# Altium footprint library PcbLib1-RFM90B.PcbLib: 1 footprints
Each footprint in its own frame and in the unit in brackets; x right, y up, seen from the top. Pads: shape width x height; smd on the part's side, far side on the other; paste and mask are expansions set on the pad; w line width, h text height; cw(c..) or ccw(c..) is an arc to the next point about the centre after c.
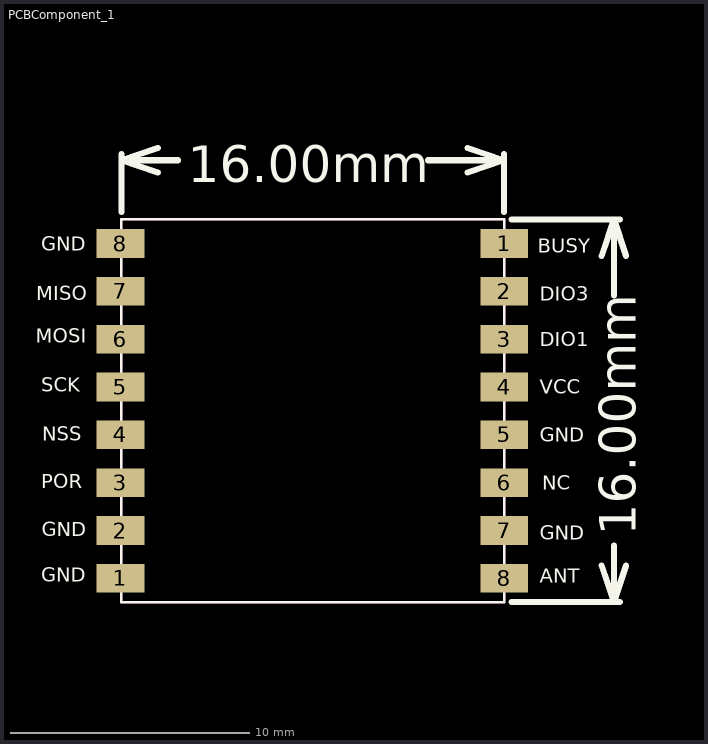
[diagram p0: the footprint, top view; thin cyan lines are the x and y axes]

## PCBComponent_1 [mm]
pads (16):
  rect 2x1.2 smd: 1(50.276,30.141) 1(66.326,44.141) 2(50.276,32.141) 2(66.326,42.141) 3(50.276,34.141) 3(66.326,40.141) 4(50.276,36.141) 4(66.326,38.141) 5(50.276,38.141) 5(66.326,36.141) 6(50.276,40.141) 6(66.326,34.141) 7(50.276,42.141) 7(66.326,32.141) 8(50.276,44.141) 8(66.326,30.141)
Top Overlay:
  lines w0.254: 50.316,45.455 50.316,47.875 ; 51.84,47.113 50.316,47.621 ; 51.84,48.129 50.316,47.621 ; 52.679,47.621 50.316,47.621 ; 63.141,47.621 66.316,47.621 ; 64.792,47.113 66.316,47.621 ; 64.792,48.129 66.316,47.621 ; 66.316,45.455 66.316,47.875 ; 66.62,29.151 71.161,29.151 ; 66.62,45.151 71.161,45.151 ; 70.399,30.675 70.907,29.151 ; 70.399,43.627 70.907,45.151 ; 70.907,31.513 70.907,29.151 ; 70.907,41.975 70.907,45.151 ; 71.415,30.675 70.907,29.151 ; 71.415,43.627 70.907,45.151
  text "16.00mm" at 53.085,46.707 h1.52
  text "16.00mm" at 71.821,31.92 h1.52
  text "BUSY" at 67.716,43.751 h0.6
  text "DIO3" at 67.816,41.751 h0.6
  text "DIO1" at 67.816,39.851 h0.6
  text "VCC" at 67.816,37.851 h0.6
  text "GND" at 67.816,31.751 h0.6
  text "NC" at 67.916,33.851 h0.6
  text "GND" at 67.816,35.851 h0.6
  text "ANT" at 67.816,29.951 h0.6
  text "GND" at 46.969,29.991 h0.6
  text "GND" at 46.981,31.909 h0.6
  text "MISO" at 46.755,41.778 h0.6
  text "MOSI" at 46.741,39.998 h0.6
  text "SCK" at 46.969,37.954 h0.6
  text "NSS" at 47,35.897 h0.6
  text "POR" at 46.969,33.903 h0.6
  text "GND" at 46.969,43.835 h0.6
Top Overlay keep-out:
  lines w0.1: 50.316,29.151 66.316,29.151 66.316,45.151 50.316,45.151 50.316,29.151